# Altium footprint library Footprint-Lib-ABahlmann-CON.PcbLib: 53 footprints (part 1 of 4)
Each footprint in its own frame and in the unit in brackets; x right, y up, seen from the top. Pads: shape width x height; smd on the part's side, far side on the other; paste and mask are expansions set on the pad; w line width, h text height; cw(c..) or ccw(c..) is an arc to the next point about the centre after c.
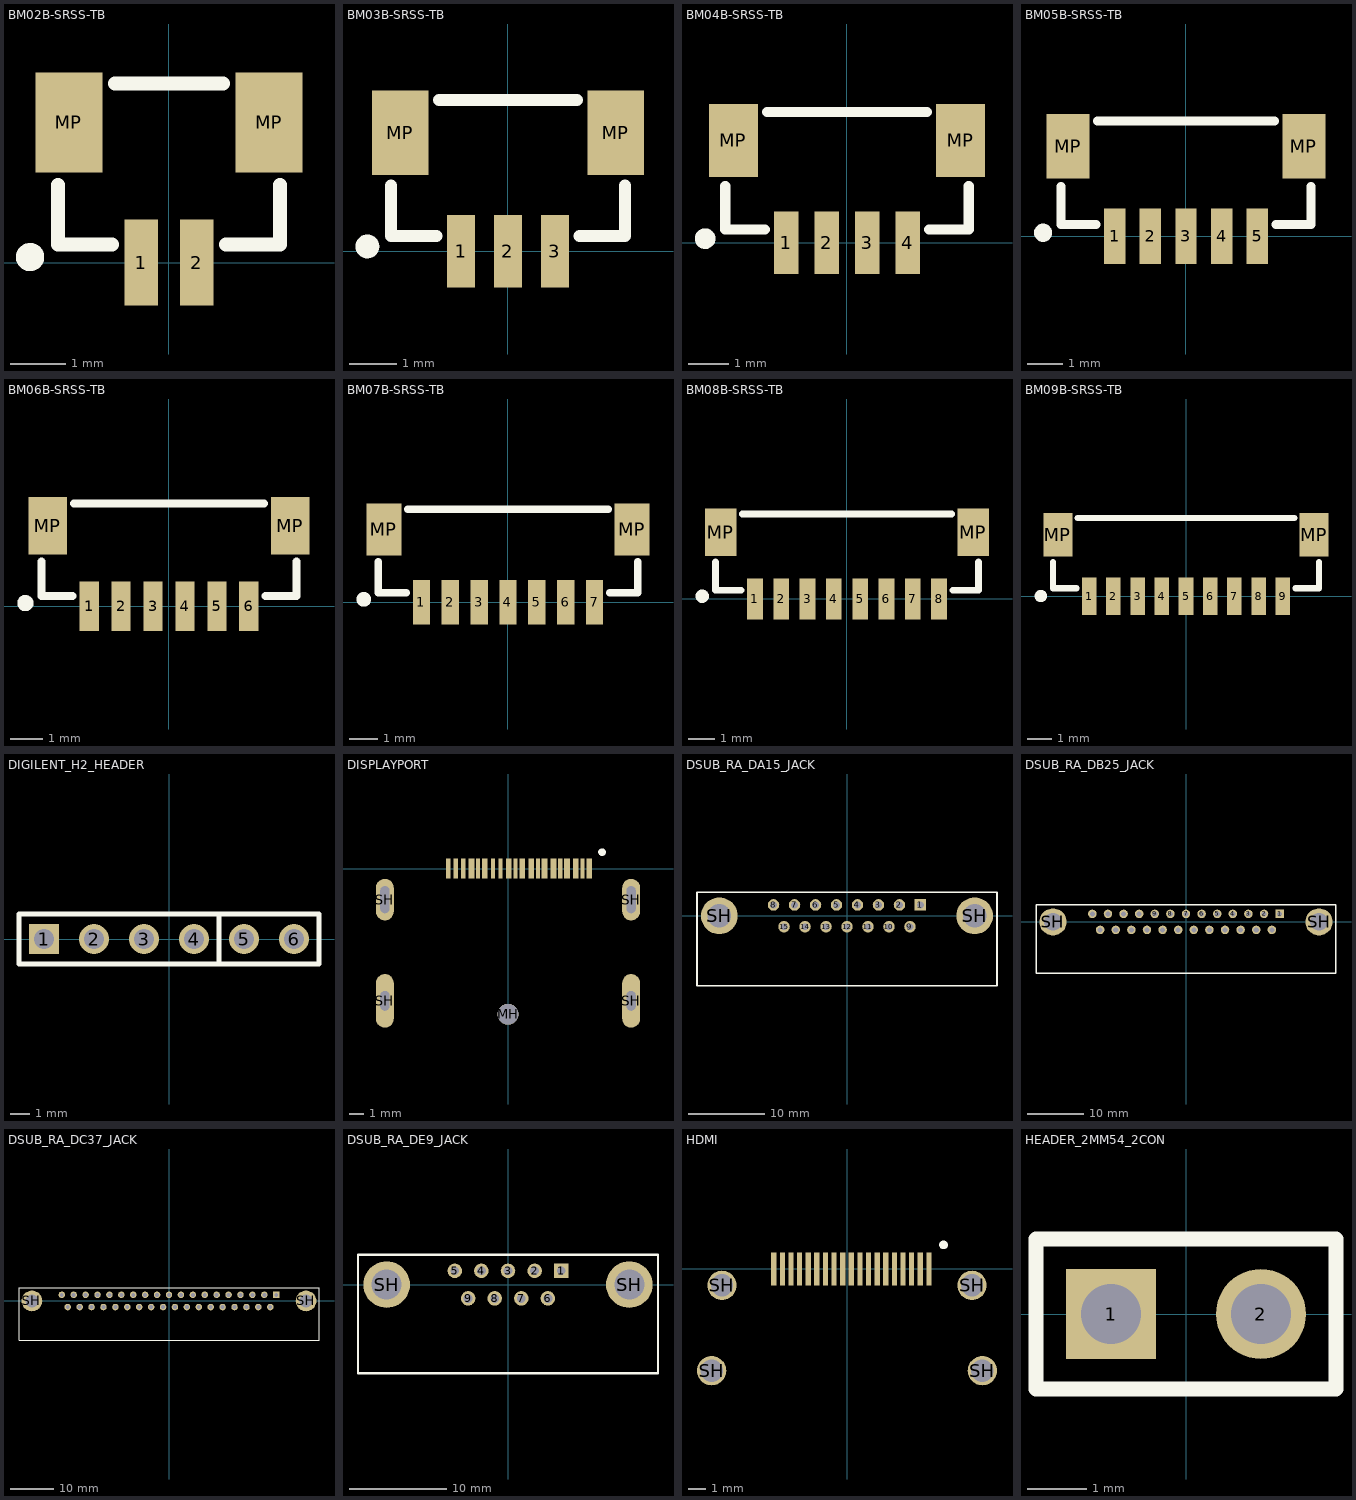
[diagram p0: the footprints below, top view; thin cyan lines are the x and y axes]

## BM02B-SRSS-TB [mm]
pads (4):
  rect 0.6x1.55 smd: 1(-0.5,0) 2(0.5,0)
  rect 1.2x1.8 smd: MP(-1.8,2.525) MP(1.8,2.525)
Top Overlay:
  circle w0.254: c-2.5,0.1 r0.127
  lines w0.254: -2,1.4 -2,0.325 -1.025,0.325 ; -0.975,3.225 0.975,3.225 ; 1.025,0.325 2,0.325 2,1.4
3D body "BM02B-SRSS-TB.STEP": height 4.33, standoff 0.01, extent -2,-0.4 2,3.2

## BM03B-SRSS-TB [mm]
pads (5):
  rect 0.6x1.55 smd: 1(-1,0) 2(0,0) 3(1,0)
  rect 1.2x1.8 smd: MP(-2.3,2.525) MP(2.3,2.525)
Top Overlay:
  circle w0.254: c-3,0.1 r0.127
  lines w0.254: -2.5,1.4 -2.5,0.325 -1.525,0.325 ; -1.475,3.225 1.475,3.225 ; 1.525,0.325 2.5,0.325 ; 2.5,0.325 2.5,1.4
3D body "BM03B-SRSS-TB.STEP": height 4.33, standoff 0.01, extent -2.5,-0.4 2.5,3.2

## BM04B-SRSS-TB [mm]
pads (6):
  rect 0.6x1.55 smd: 1(-1.5,0) 2(-0.5,0) 3(0.5,0) 4(1.5,0)
  rect 1.2x1.8 smd: MP(-2.8,2.525) MP(2.8,2.525)
Top Overlay:
  circle w0.254: c-3.5,0.1 r0.127
  lines w0.254: -3,1.4 -3,0.325 -2.025,0.325 ; -1.975,3.225 1.975,3.225 ; 2.025,0.325 3,0.325 3,1.4
3D body "BM04B-SRSS-TB.STEP": height 4.33, standoff 0.01, extent -3,-0.4 3,3.2

## BM05B-SRSS-TB [mm]
pads (7):
  rect 0.6x1.55 smd: 1(-2,0) 2(-1,0) 3(0,0) 4(1,0) 5(2,0)
  rect 1.2x1.8 smd: MP(-3.3,2.525) MP(3.3,2.525)
Top Overlay:
  circle w0.254: c-4,0.1 r0.127
  lines w0.254: -3.5,1.4 -3.5,0.325 -2.525,0.325 ; -2.475,3.225 2.475,3.225 ; 2.525,0.325 3.5,0.325 3.5,1.4
3D body "BM05B-SRSS-TB.STEP": height 4.33, standoff 0.01, extent -3.5,-0.4 3.5,3.2

## BM06B-SRSS-TB [mm]
pads (8):
  rect 0.6x1.55 smd: 1(-2.5,0) 2(-1.5,0) 3(-0.5,0) 4(0.5,0) 5(1.5,0) 6(2.5,0)
  rect 1.2x1.8 smd: MP(-3.8,2.525) MP(3.8,2.525)
Top Overlay:
  circle w0.254: c-4.5,0.1 r0.127
  lines w0.254: -4,1.4 -4,0.325 -3.025,0.325 ; -2.975,3.225 2.975,3.225 ; 3.025,0.325 4,0.325 4,1.4
3D body "BM06B-SRSS-TB.STEP": height 4.33, standoff 0.01, extent -4,-0.4 4,3.2

## BM07B-SRSS-TB [mm]
pads (9):
  rect 0.6x1.55 smd: 1(-3,0) 2(-2,0) 3(-1,0) 4(0,0) 5(1,0) 6(2,0) 7(3,0)
  rect 1.2x1.8 smd: MP(-4.3,2.525) MP(4.3,2.525)
Top Overlay:
  circle w0.254: c-5,0.1 r0.127
  lines w0.254: -4.5,1.4 -4.5,0.325 -3.525,0.325 ; -3.475,3.225 3.475,3.225 ; 3.525,0.325 4.5,0.325 4.5,1.4
3D body "BM07B-SRSS-TB.STEP": height 4.33, standoff 0.01, extent -4.5,-0.4 4.5,3.2

## BM08B-SRSS-TB [mm]
pads (10):
  rect 0.6x1.55 smd: 1(-3.5,0) 2(-2.5,0) 3(-1.5,0) 4(-0.5,0) 5(0.5,0) 6(1.5,0) 7(2.5,0) 8(3.5,0)
  rect 1.2x1.8 smd: MP(-4.8,2.525) MP(4.8,2.525)
Top Overlay:
  circle w0.254: c-5.5,0.1 r0.127
  lines w0.254: -5,1.4 -5,0.325 -4.025,0.325 ; -3.975,3.225 3.975,3.225 ; 4.025,0.325 5,0.325 5,1.4
3D body "BM08B-SRSS-TB.STEP": height 4.33, standoff 0.01, extent -5,-0.4 5,3.2

## BM09B-SRSS-TB [mm]
pads (11):
  rect 0.6x1.55 smd: 1(-4,0) 2(-3,0) 3(-2,0) 4(-1,0) 5(0,0) 6(1,0) 7(2,0) 8(3,0) 9(4,0)
  rect 1.2x1.8 smd: MP(-5.3,2.525) MP(5.3,2.525)
Top Overlay:
  circle w0.254: c-6,0 r0.127
  lines w0.254: -5.5,1.4 -5.5,0.325 -4.525,0.325 ; -4.475,3.225 4.475,3.225 ; 4.525,0.325 5.5,0.325 5.5,1.4
3D body "BM09B-SRSS-TB.STEP": height 4.33, standoff 0.01, extent -5.5,-0.4 5.5,3.2

## DIGILENT_H2_HEADER [mil] "Digilent HS2 6-Pin 2.54mm Pitch Header"
pads (6):
  rect 60x60 hole 40: 1(-250,0)
  round 60 hole 40: 2(-150,0) 3(-50,0) 4(50,0) 5(150,0) 6(250,0)
Top Overlay:
  lines w10: 100,-50 100,50 ; -300,-50 -300,50 300,50 300,-50 -300,-50
3D body "1x6 TH Vert 100mil.step": height 329.92, standoff -129.92, extent -300,-50 300,50

## DISPLAYPORT [mm] "Drawing: https://cdn.amphenol-cs.com/media/wysiwyg/files/drawing/dpf201027xxxx.pdf"
pads (25):
  rect 0.38x1.35 smd mask+0.05: 1(5.45,0) 3(4.55,0) 4(3.95,0) 6(3.05,0) 7(2.45,0) 9(1.55,0) 10(0.95,0) 12(0.05,0) 15(-1.55,0) 17(-2.45,0)
  rect 0.28x1.35 smd mask+0.05: 2(5,0) 5(3.5,0) 8(2,0) 11(0.5,0) 13(-0.5,0) 14(-1,0) 16(-2,0) 18(-3,0) 19(-3.5,0) 20(-4,0)
  round 1.4 hole 1.4 unplated: MH(0,-9.76)
  oval 1.2x3.6 hole 0.6 slot 1.3 at 90 deg: SH(-8.25,-8.86) SH(8.25,-8.86)
  oval 1.2x2.8 hole 0.6 slot 1.8 at 90 deg: SH(-8.25,-2.08) SH(8.25,-2.08)
Top Overlay:
  circle w0.254: c6.3,1.1 r0.127
3D body "DPF20102711TR.STEP": height 6.59, standoff -2.17, extent -8.85,-14.065 8.85,0.506

## DSUB_RA_DA15_JACK [mm] "15 Position D-Sub Receptacle, Right Angle, Female Sockets Connector. PN: D15S33E4GV00LF"
pads (17):
  rect 1.5x1.5 hole 0.9: 1(9.59,1.42)
  round 1.5 hole 0.9: 2(6.85,1.42) 3(4.11,1.42) 4(1.37,1.42) 5(-1.37,1.42) 6(-4.11,1.42) 7(-6.85,1.42) 8(-9.59,1.42) 9(8.22,-1.42) 10(5.48,-1.42) 11(2.74,-1.42) 12(0,-1.42) 13(-2.74,-1.42) 14(-5.48,-1.42) 15(-8.22,-1.42)
  round 4.8 hole 3.1: SH(-16.66,0) SH(16.66,0)
Top Overlay:
  lines w0.254: -19.575,-9.125 -19.575,3.075 19.575,3.075 19.575,-9.125 -19.575,-9.125
3D body "D15S33E4GV00LFC.stp": height 12.56, standoff -3.19, extent -19.57,-15.675 19.57,3.075

## DSUB_RA_DB25_JACK [mm] "25 Position D-Sub Receptacle, Right Angle, Female Sockets Connector. PN: D25S33E4GV00LF"
pads (27):
  rect 1.5x1.5 hole 0.9: 1(16.56,1.42)
  round 1.5 hole 0.9: 2(13.8,1.42) 3(11.04,1.42) 4(8.28,1.42) 5(5.52,1.42) 6(2.76,1.42) 7(0,1.42) 8(-2.76,1.42) 9(-5.52,1.42) 10(-8.28,1.42) 11(-11.04,1.42) 12(-13.8,1.42) 13(-16.56,1.42) 14(15.18,-1.42) 15(12.42,-1.42) 16(9.66,-1.42) 17(6.9,-1.42) 18(4.14,-1.42) 19(1.38,-1.42) 20(-1.38,-1.42) 21(-4.14,-1.42) 22(-6.9,-1.42) 23(-9.66,-1.42) 24(-12.42,-1.42) 25(-15.18,-1.42)
  round 4.8 hole 3.1: SH(-23.52,0) SH(23.52,0)
Top Overlay:
  lines w0.254: -26.525,-9.125 -26.525,3.075 26.525,3.075 26.525,-9.125 -26.525,-9.125
3D body "D25S33E4GV00LFC.stp": height 12.56, standoff -3.19, extent -26.515,-15.675 26.515,3.075

## DSUB_RA_DC37_JACK [mm] "37 Position D-Sub Receptacle, Right Angle, Female Sockets Connector. PN: D37S33E4GV00LF"
pads (39):
  rect 1.5x1.5 hole 0.9: 1(24.84,1.42)
  round 1.5 hole 0.9: 2(22.08,1.42) 3(19.32,1.42) 4(16.56,1.42) 5(13.8,1.42) 6(11.04,1.42) 7(8.28,1.42) 8(5.52,1.42) 9(2.76,1.42) 10(0,1.42) 11(-2.76,1.42) 12(-5.52,1.42) 13(-8.28,1.42) 14(-11.04,1.42) 15(-13.8,1.42) 16(-16.56,1.42) 17(-19.32,1.42) 18(-22.08,1.42) 19(-24.84,1.42) 20(23.46,-1.42) 21(20.7,-1.42) 22(17.94,-1.42) 23(15.18,-1.42) 24(12.42,-1.42) 25(9.66,-1.42) 26(6.9,-1.42) 27(4.14,-1.42) 28(1.38,-1.42) 29(-1.38,-1.42) 30(-4.14,-1.42) 31(-6.9,-1.42) 32(-9.66,-1.42) 33(-12.42,-1.42) 34(-15.18,-1.42) 35(-17.94,-1.42) 36(-20.7,-1.42) 37(-23.46,-1.42)
  round 4.8 hole 3.1: SH(-31.75,0) SH(31.75,0)
Top Overlay:
  lines w0.254: -34.75,-9.125 -34.75,3.075 34.75,3.075 34.75,-9.125 -34.75,-9.125
3D body "sd37s33e4gv00lf.stp": height 12.56, standoff -3.19, extent -34.75,-15.675 34.75,3.075

## DSUB_RA_DE9_JACK [mm] "9 Position D-Sub Receptacle, Right Angle, Female Sockets Connector. PN: D09S33E4GV00LF"
pads (11):
  rect 1.5x1.5 hole 0.9: 1(5.48,1.42)
  round 1.5 hole 0.9: 2(2.74,1.42) 3(0,1.42) 4(-2.74,1.42) 5(-5.48,1.42) 6(4.11,-1.42) 7(1.37,-1.42) 8(-1.37,-1.42) 9(-4.11,-1.42)
  round 4.8 hole 3.1: SH(-12.495,0) SH(12.495,0)
Top Overlay:
  lines w0.254: -15.45,-9.125 -15.45,3.075 15.45,3.075 15.45,-9.125 -15.45,-9.125
3D body "sd09s33e4gv00lf.stp": height 12.56, standoff -3.19, extent -15.45,-15.675 15.45,3.075

## HDMI [mm]
pads (23):
  rect 0.3x1.9 smd mask+0.05: 1(4.75,0) 2(4.25,0) 3(3.75,0) 4(3.25,0) 5(2.75,0) 6(2.25,0) 7(1.75,0) 8(1.25,0) 9(0.75,0) 10(0.25,0) 11(-0.25,0) 12(-0.75,0) 13(-1.25,0) 14(-1.75,0) 15(-2.25,0) 16(-2.75,0) 17(-3.25,0) 18(-3.75,0) 19(-4.25,0)
  round 1.7 hole 1.3: SH(-7.85,-5.9) SH(-7.25,-0.95) SH(7.25,-0.95) SH(7.85,-5.9)
Top Overlay:
  circle w0.254: c5.6,1.4 r0.127
3D body "10029449-111RLF.STEP": height 6.27, standoff -1.86, extent -8.1,-9.42 8.1,0.68

## HEADER_2MM54_2CON [mil] "Connector Header Through Hole 2 position 0.100\" (2.54mm)"
pads (2):
  rect 60x60 hole 40: 1(-50,0)
  round 60 hole 40: 2(50,0)
Top Overlay:
  lines w10: -100,-50 100,-50 100,50 -100,50 -100,-50
3D body "1x2 TH Vert 100mil.step": height 329.92, standoff -129.92, extent -100,-50 100,50